# Altium schematic symbol library Opto.SchLib: 11 symbols
Pins are listed as number, name and electrical type; pins without a type are passive.

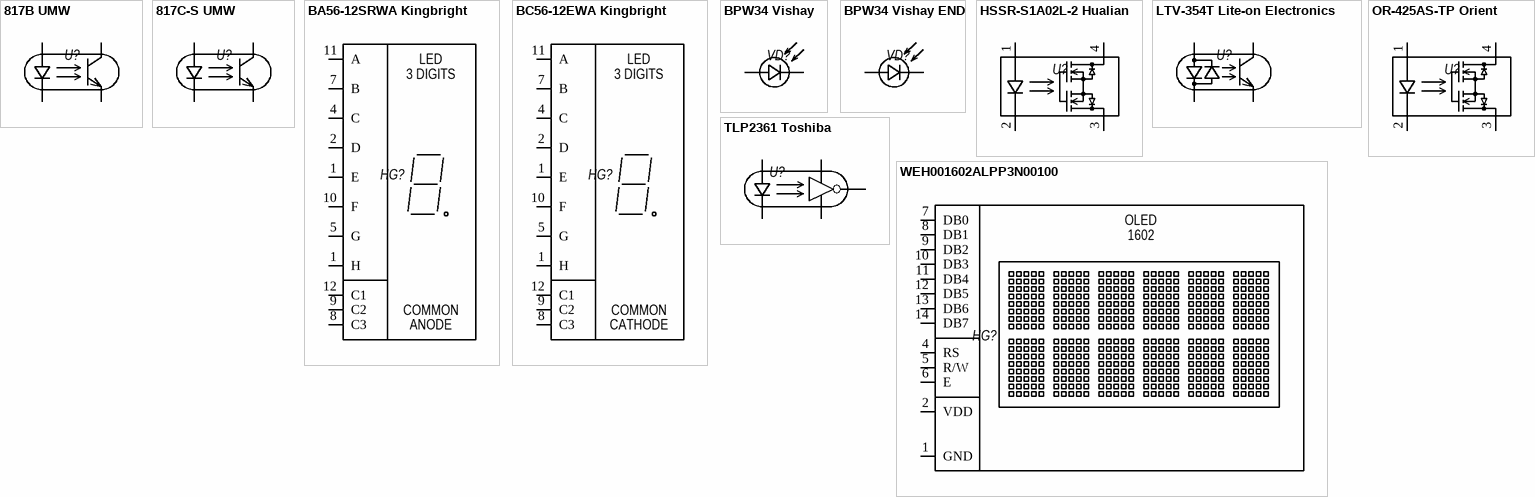
[diagram p0: symbols 817B UMW to WEH001602ALPP3N00100]

## 817B UMW
designator U?  (value not drawn)
footprint DIP-4
pins: 1, 2, 3, 4

## 817C-S UMW
designator U?  (value not drawn)
footprint 817C
pins: 1, 2, 3, 4

## BA56-12SRWA Kingbright
designator HG?  (value not drawn)
pins: 1 E, 1 H, 2 D, 4 C, 5 G, 7 B, 8 C3, 9 C2, 10 F, 11 A, 12 C1
text: LED; 3 DIGITS; COMMON; ANODE

## BC56-12EWA Kingbright
designator HG?  (value not drawn)
pins: 1 E, 1 H, 2 D, 4 C, 5 G, 7 B, 8 C3, 9 C2, 10 F, 11 A, 12 C1
text: LED; 3 DIGITS; COMMON; CATHODE

## BPW34 Vishay
designator VD?  (value not drawn)
Partnumber: BPW34 Vishay
footprint BPW34
pins: 1 A, 2 C

## BPW34 Vishay END
designator VD?  (value not drawn)
Partnumber: BPW34 Vishay
footprint BPW34-END
pins: 1 A, 2 C

## HSSR-S1A02L-2 Hualian
designator U?  (value not drawn)
Partnumber: HSSR-S1A02L-2 Hualian
footprint LTV-354T
pins: 1, 2, 3, 4

## LTV-354T Lite-on Electronics
designator U?  (value not drawn)
footprint LTV-354T
pins: 1, 2, 3, 4

## OR-425AS-TP Orient
designator U?  (value not drawn)
Partnumber: HSSR-S1A02L-2 Hualian
footprint 817C
pins: 1, 2, 3, 4

## TLP2361 Toshiba
designator U?  (value not drawn)
footprint TLP2361
pins: 1, 3, 4, 5, 6

## WEH001602ALPP3N00100
designator HG?  (value not drawn)
OLED символьный 16х2 (1602A), желтый, 8-битный паралл. интерфейс/опц. SPI, VDD = 3В, -40...+80С
footprint DISPLAY_1602A
pins: 1 GND, 2 VDD, 4 RS, 5 R/W, 6 E, 7 DB0, 8 DB1, 9 DB2, 10 DB3, 11 DB4, 12 DB5, 13 DB6, 14 DB7
text: OLED; 1602